# Altium footprint library TerminalBlock_CUI.PcbLib: 23 footprints (part 2 of 2)
Each footprint in its own frame and in the unit in brackets; x right, y up, seen from the top. Pads: shape width x height; smd on the part's side, far side on the other; paste and mask are expansions set on the pad; w line width, h text height; cw(c..) or ccw(c..) is an arc to the next point about the centre after c.
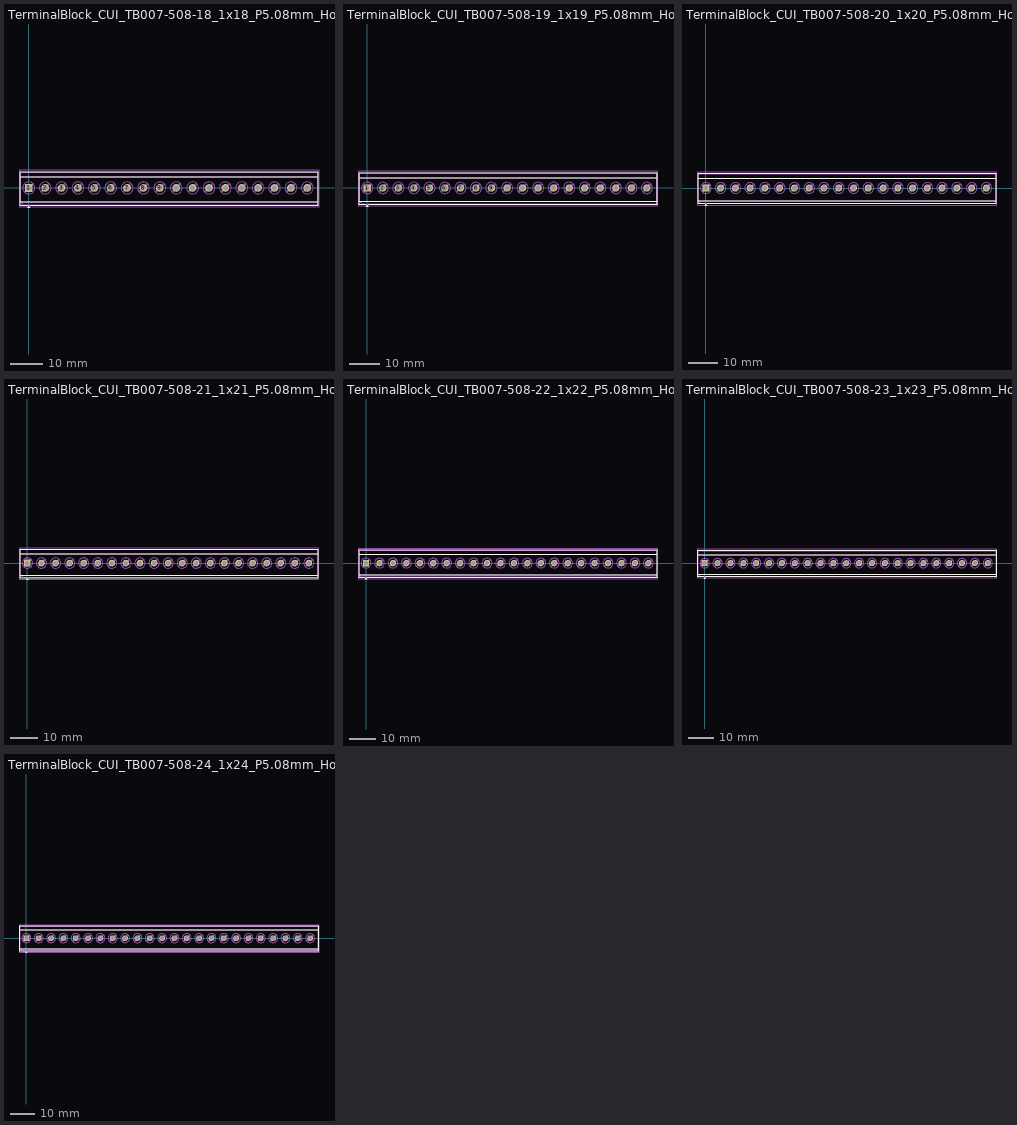
[diagram p1: the footprints below, top view; thin cyan lines are the x and y axes]

## TerminalBlock_CUI_TB007-508-18_1x18_P5.08mm_Horizontal [mm]
pads (18):
  rrect10% 2.4x2.4 hole 1.6: 1(0,0)
  round 2.4 hole 1.6: 2(5.08,0) 3(10.16,0) 4(15.24,0) 5(20.32,0) 6(25.4,0) 7(30.48,0) 8(35.56,0) 9(40.64,0) 10(45.72,0) 11(50.8,0) 12(55.88,0) 13(60.96,0) 14(66.04,0) 15(71.12,0) 16(76.2,0) 17(81.28,0) 18(86.36,0)
F.SilkS:
  region: 0.44,-6.08 -0.44,-6.08 0,-5.47
  lines w0.254: -2.66,-4.35 89.62,-4.35 ; -2.66,3.4 89.62,3.4 ; -0.3,-5.47 -2.66,-5.47 -2.66,5.02 89.62,5.02 89.62,-5.47 0.3,-5.47
F.Fab:
  circle w0.254: c0,0 r1.85
  circle w0.254: c5.08,0 r1.85
  circle w0.254: c10.16,0 r1.85
  circle w0.254: c15.24,0 r1.85
  circle w0.254: c20.32,0 r1.85
  circle w0.254: c25.4,0 r1.85
  circle w0.254: c30.48,0 r1.85
  circle w0.254: c35.56,0 r1.85
  circle w0.254: c40.64,0 r1.85
  circle w0.254: c45.72,0 r1.85
  circle w0.254: c50.8,0 r1.85
  circle w0.254: c55.88,0 r1.85
  circle w0.254: c60.96,0 r1.85
  circle w0.254: c66.04,0 r1.85
  circle w0.254: c71.12,0 r1.85
  circle w0.254: c76.2,0 r1.85
  circle w0.254: c81.28,0 r1.85
  circle w0.254: c86.36,0 r1.85
  lines w0.254: -2.54,3.4 89.5,3.4 ; -1.403,-1.177 1.177,1.403 ; -1.177,-1.403 1.403,1.177 ; 3.677,-1.177 6.257,1.403 ; 3.903,-1.403 6.483,1.177 ; 8.757,-1.177 11.337,1.403 ; 8.983,-1.403 11.563,1.177 ; 13.837,-1.177 16.417,1.403 ; 14.063,-1.403 16.643,1.177 ; 18.917,-1.177 21.497,1.403 ; 19.143,-1.403 21.723,1.177 ; 23.997,-1.177 26.577,1.403 ; 24.223,-1.403 26.803,1.177 ; 29.077,-1.177 31.657,1.403 ; 29.303,-1.403 31.883,1.177 ; 34.157,-1.177 36.737,1.403 ; 34.383,-1.403 36.963,1.177 ; 39.237,-1.177 41.817,1.403 ; 39.463,-1.403 42.043,1.177 ; 44.317,-1.177 46.897,1.403 ; 44.543,-1.403 47.123,1.177 ; 49.397,-1.177 51.977,1.403 ; 49.623,-1.403 52.203,1.177 ; 54.477,-1.177 57.057,1.403 ; 54.703,-1.403 57.283,1.177 ; 59.557,-1.177 62.137,1.403 ; 59.783,-1.403 62.363,1.177 ; 64.637,-1.177 67.217,1.403 ; 64.863,-1.403 67.443,1.177 ; 69.717,-1.177 72.297,1.403 ; 69.943,-1.403 72.523,1.177 ; 74.797,-1.177 77.377,1.403 ; 75.023,-1.403 77.603,1.177 ; 79.877,-1.177 82.457,1.403 ; 80.103,-1.403 82.683,1.177 ; 84.957,-1.177 87.537,1.403 ; 85.183,-1.403 87.763,1.177 ; 89.5,-4.35 -2.54,-4.35 ; -2.54,-4.35 -2.54,4.9 89.5,4.9 89.5,-5.35 -1.54,-5.35 -2.54,-4.35
  text "'.Designator'" at 39.433,-1.065 h1
F.CrtYd:
  lines w0.254: -3.04,-5.85 -3.04,5.4 90,5.4 90,-5.85 -3.04,-5.85

## TerminalBlock_CUI_TB007-508-19_1x19_P5.08mm_Horizontal [mm]
pads (19):
  rrect10% 2.4x2.4 hole 1.6: 1(0,0)
  round 2.4 hole 1.6: 2(5.08,0) 3(10.16,0) 4(15.24,0) 5(20.32,0) 6(25.4,0) 7(30.48,0) 8(35.56,0) 9(40.64,0) 10(45.72,0) 11(50.8,0) 12(55.88,0) 13(60.96,0) 14(66.04,0) 15(71.12,0) 16(76.2,0) 17(81.28,0) 18(86.36,0) 19(91.44,0)
F.SilkS:
  region: 0.44,-6.08 -0.44,-6.08 0,-5.47
  lines w0.254: -2.66,-4.35 94.7,-4.35 ; -2.66,3.4 94.7,3.4 ; -0.3,-5.47 -2.66,-5.47 -2.66,5.02 94.7,5.02 94.7,-5.47 0.3,-5.47
F.Fab:
  circle w0.254: c0,0 r1.85
  circle w0.254: c5.08,0 r1.85
  circle w0.254: c10.16,0 r1.85
  circle w0.254: c15.24,0 r1.85
  circle w0.254: c20.32,0 r1.85
  circle w0.254: c25.4,0 r1.85
  circle w0.254: c30.48,0 r1.85
  circle w0.254: c35.56,0 r1.85
  circle w0.254: c40.64,0 r1.85
  circle w0.254: c45.72,0 r1.85
  circle w0.254: c50.8,0 r1.85
  circle w0.254: c55.88,0 r1.85
  circle w0.254: c60.96,0 r1.85
  circle w0.254: c66.04,0 r1.85
  circle w0.254: c71.12,0 r1.85
  circle w0.254: c76.2,0 r1.85
  circle w0.254: c81.28,0 r1.85
  circle w0.254: c86.36,0 r1.85
  circle w0.254: c91.44,0 r1.85
  lines w0.254: -2.54,3.4 94.58,3.4 ; -1.403,-1.177 1.177,1.403 ; -1.177,-1.403 1.403,1.177 ; 3.677,-1.177 6.257,1.403 ; 3.903,-1.403 6.483,1.177 ; 8.757,-1.177 11.337,1.403 ; 8.983,-1.403 11.563,1.177 ; 13.837,-1.177 16.417,1.403 ; 14.063,-1.403 16.643,1.177 ; 18.917,-1.177 21.497,1.403 ; 19.143,-1.403 21.723,1.177 ; 23.997,-1.177 26.577,1.403 ; 24.223,-1.403 26.803,1.177 ; 29.077,-1.177 31.657,1.403 ; 29.303,-1.403 31.883,1.177 ; 34.157,-1.177 36.737,1.403 ; 34.383,-1.403 36.963,1.177 ; 39.237,-1.177 41.817,1.403 ; 39.463,-1.403 42.043,1.177 ; 44.317,-1.177 46.897,1.403 ; 44.543,-1.403 47.123,1.177 ; 49.397,-1.177 51.977,1.403 ; 49.623,-1.403 52.203,1.177 ; 54.477,-1.177 57.057,1.403 ; 54.703,-1.403 57.283,1.177 ; 59.557,-1.177 62.137,1.403 ; 59.783,-1.403 62.363,1.177 ; 64.637,-1.177 67.217,1.403 ; 64.863,-1.403 67.443,1.177 ; 69.717,-1.177 72.297,1.403 ; 69.943,-1.403 72.523,1.177 ; 74.797,-1.177 77.377,1.403 ; 75.023,-1.403 77.603,1.177 ; 79.877,-1.177 82.457,1.403 ; 80.103,-1.403 82.683,1.177 ; 84.957,-1.177 87.537,1.403 ; 85.183,-1.403 87.763,1.177 ; 90.037,-1.177 92.617,1.403 ; 90.263,-1.403 92.843,1.177 ; 94.58,-4.35 -2.54,-4.35 ; -2.54,-4.35 -2.54,4.9 94.58,4.9 94.58,-5.35 -1.54,-5.35 -2.54,-4.35
  text "'.Designator'" at 41.973,-1.065 h1
F.CrtYd:
  lines w0.254: -3.04,-5.85 -3.04,5.4 95.08,5.4 95.08,-5.85 -3.04,-5.85

## TerminalBlock_CUI_TB007-508-20_1x20_P5.08mm_Horizontal [mm]
pads (20):
  rrect10% 2.4x2.4 hole 1.6: 1(0,0)
  round 2.4 hole 1.6: 2(5.08,0) 3(10.16,0) 4(15.24,0) 5(20.32,0) 6(25.4,0) 7(30.48,0) 8(35.56,0) 9(40.64,0) 10(45.72,0) 11(50.8,0) 12(55.88,0) 13(60.96,0) 14(66.04,0) 15(71.12,0) 16(76.2,0) 17(81.28,0) 18(86.36,0) 19(91.44,0) 20(96.52,0)
F.SilkS:
  region: 0.44,-6.08 -0.44,-6.08 0,-5.47
  lines w0.254: -2.66,-4.35 99.78,-4.35 ; -2.66,3.4 99.78,3.4 ; -0.3,-5.47 -2.66,-5.47 -2.66,5.02 99.78,5.02 99.78,-5.47 0.3,-5.47
F.Fab:
  circle w0.254: c0,0 r1.85
  circle w0.254: c5.08,0 r1.85
  circle w0.254: c10.16,0 r1.85
  circle w0.254: c15.24,0 r1.85
  circle w0.254: c20.32,0 r1.85
  circle w0.254: c25.4,0 r1.85
  circle w0.254: c30.48,0 r1.85
  circle w0.254: c35.56,0 r1.85
  circle w0.254: c40.64,0 r1.85
  circle w0.254: c45.72,0 r1.85
  circle w0.254: c50.8,0 r1.85
  circle w0.254: c55.88,0 r1.85
  circle w0.254: c60.96,0 r1.85
  circle w0.254: c66.04,0 r1.85
  circle w0.254: c71.12,0 r1.85
  circle w0.254: c76.2,0 r1.85
  circle w0.254: c81.28,0 r1.85
  circle w0.254: c86.36,0 r1.85
  circle w0.254: c91.44,0 r1.85
  circle w0.254: c96.52,0 r1.85
  lines w0.254: -2.54,3.4 99.66,3.4 ; -1.403,-1.177 1.177,1.403 ; -1.177,-1.403 1.403,1.177 ; 3.677,-1.177 6.257,1.403 ; 3.903,-1.403 6.483,1.177 ; 8.757,-1.177 11.337,1.403 ; 8.983,-1.403 11.563,1.177 ; 13.837,-1.177 16.417,1.403 ; 14.063,-1.403 16.643,1.177 ; 18.917,-1.177 21.497,1.403 ; 19.143,-1.403 21.723,1.177 ; 23.997,-1.177 26.577,1.403 ; 24.223,-1.403 26.803,1.177 ; 29.077,-1.177 31.657,1.403 ; 29.303,-1.403 31.883,1.177 ; 34.157,-1.177 36.737,1.403 ; 34.383,-1.403 36.963,1.177 ; 39.237,-1.177 41.817,1.403 ; 39.463,-1.403 42.043,1.177 ; 44.317,-1.177 46.897,1.403 ; 44.543,-1.403 47.123,1.177 ; 49.397,-1.177 51.977,1.403 ; 49.623,-1.403 52.203,1.177 ; 54.477,-1.177 57.057,1.403 ; 54.703,-1.403 57.283,1.177 ; 59.557,-1.177 62.137,1.403 ; 59.783,-1.403 62.363,1.177 ; 64.637,-1.177 67.217,1.403 ; 64.863,-1.403 67.443,1.177 ; 69.717,-1.177 72.297,1.403 ; 69.943,-1.403 72.523,1.177 ; 74.797,-1.177 77.377,1.403 ; 75.023,-1.403 77.603,1.177 ; 79.877,-1.177 82.457,1.403 ; 80.103,-1.403 82.683,1.177 ; 84.957,-1.177 87.537,1.403 ; 85.183,-1.403 87.763,1.177 ; 90.037,-1.177 92.617,1.403 ; 90.263,-1.403 92.843,1.177 ; 95.117,-1.177 97.697,1.403 ; 95.343,-1.403 97.923,1.177 ; 99.66,-4.35 -2.54,-4.35 ; -2.54,-4.35 -2.54,4.9 99.66,4.9 99.66,-5.35 -1.54,-5.35 -2.54,-4.35
  text "'.Designator'" at 44.513,-1.065 h1
F.CrtYd:
  lines w0.254: -3.04,-5.85 -3.04,5.4 100.16,5.4 100.16,-5.85 -3.04,-5.85

## TerminalBlock_CUI_TB007-508-21_1x21_P5.08mm_Horizontal [mm]
pads (21):
  rrect10% 2.4x2.4 hole 1.6: 1(0,0)
  round 2.4 hole 1.6: 2(5.08,0) 3(10.16,0) 4(15.24,0) 5(20.32,0) 6(25.4,0) 7(30.48,0) 8(35.56,0) 9(40.64,0) 10(45.72,0) 11(50.8,0) 12(55.88,0) 13(60.96,0) 14(66.04,0) 15(71.12,0) 16(76.2,0) 17(81.28,0) 18(86.36,0) 19(91.44,0) 20(96.52,0) 21(101.6,0)
F.SilkS:
  region: 0.44,-6.08 -0.44,-6.08 0,-5.47
  lines w0.254: -2.66,-4.35 104.86,-4.35 ; -2.66,3.4 104.86,3.4 ; -0.3,-5.47 -2.66,-5.47 -2.66,5.02 104.86,5.02 104.86,-5.47 0.3,-5.47
F.Fab:
  circle w0.254: c0,0 r1.85
  circle w0.254: c5.08,0 r1.85
  circle w0.254: c10.16,0 r1.85
  circle w0.254: c15.24,0 r1.85
  circle w0.254: c20.32,0 r1.85
  circle w0.254: c25.4,0 r1.85
  circle w0.254: c30.48,0 r1.85
  circle w0.254: c35.56,0 r1.85
  circle w0.254: c40.64,0 r1.85
  circle w0.254: c45.72,0 r1.85
  circle w0.254: c50.8,0 r1.85
  circle w0.254: c55.88,0 r1.85
  circle w0.254: c60.96,0 r1.85
  circle w0.254: c66.04,0 r1.85
  circle w0.254: c71.12,0 r1.85
  circle w0.254: c76.2,0 r1.85
  circle w0.254: c81.28,0 r1.85
  circle w0.254: c86.36,0 r1.85
  circle w0.254: c91.44,0 r1.85
  circle w0.254: c96.52,0 r1.85
  circle w0.254: c101.6,0 r1.85
  lines w0.254: -2.54,3.4 104.74,3.4 ; -1.403,-1.177 1.177,1.403 ; -1.177,-1.403 1.403,1.177 ; 3.677,-1.177 6.257,1.403 ; 3.903,-1.403 6.483,1.177 ; 8.757,-1.177 11.337,1.403 ; 8.983,-1.403 11.563,1.177 ; 13.837,-1.177 16.417,1.403 ; 14.063,-1.403 16.643,1.177 ; 18.917,-1.177 21.497,1.403 ; 19.143,-1.403 21.723,1.177 ; 23.997,-1.177 26.577,1.403 ; 24.223,-1.403 26.803,1.177 ; 29.077,-1.177 31.657,1.403 ; 29.303,-1.403 31.883,1.177 ; 34.157,-1.177 36.737,1.403 ; 34.383,-1.403 36.963,1.177 ; 39.237,-1.177 41.817,1.403 ; 39.463,-1.403 42.043,1.177 ; 44.317,-1.177 46.897,1.403 ; 44.543,-1.403 47.123,1.177 ; 49.397,-1.177 51.977,1.403 ; 49.623,-1.403 52.203,1.177 ; 54.477,-1.177 57.057,1.403 ; 54.703,-1.403 57.283,1.177 ; 59.557,-1.177 62.137,1.403 ; 59.783,-1.403 62.363,1.177 ; 64.637,-1.177 67.217,1.403 ; 64.863,-1.403 67.443,1.177 ; 69.717,-1.177 72.297,1.403 ; 69.943,-1.403 72.523,1.177 ; 74.797,-1.177 77.377,1.403 ; 75.023,-1.403 77.603,1.177 ; 79.877,-1.177 82.457,1.403 ; 80.103,-1.403 82.683,1.177 ; 84.957,-1.177 87.537,1.403 ; 85.183,-1.403 87.763,1.177 ; 90.037,-1.177 92.617,1.403 ; 90.263,-1.403 92.843,1.177 ; 95.117,-1.177 97.697,1.403 ; 95.343,-1.403 97.923,1.177 ; 100.197,-1.177 102.777,1.403 ; 100.423,-1.403 103.003,1.177 ; 104.74,-4.35 -2.54,-4.35 ; -2.54,-4.35 -2.54,4.9 104.74,4.9 104.74,-5.35 -1.54,-5.35 -2.54,-4.35
  text "'.Designator'" at 47.053,-1.065 h1
F.CrtYd:
  lines w0.254: -3.04,-5.85 -3.04,5.4 105.24,5.4 105.24,-5.85 -3.04,-5.85

## TerminalBlock_CUI_TB007-508-22_1x22_P5.08mm_Horizontal [mm]
pads (22):
  rrect10% 2.4x2.4 hole 1.6: 1(0,0)
  round 2.4 hole 1.6: 2(5.08,0) 3(10.16,0) 4(15.24,0) 5(20.32,0) 6(25.4,0) 7(30.48,0) 8(35.56,0) 9(40.64,0) 10(45.72,0) 11(50.8,0) 12(55.88,0) 13(60.96,0) 14(66.04,0) 15(71.12,0) 16(76.2,0) 17(81.28,0) 18(86.36,0) 19(91.44,0) 20(96.52,0) 21(101.6,0) 22(106.68,0)
F.SilkS:
  region: 0.44,-6.08 -0.44,-6.08 0,-5.47
  lines w0.254: -2.66,-4.35 109.94,-4.35 ; -2.66,3.4 109.94,3.4 ; -0.3,-5.47 -2.66,-5.47 -2.66,5.02 109.94,5.02 109.94,-5.47 0.3,-5.47
F.Fab:
  circle w0.254: c0,0 r1.85
  circle w0.254: c5.08,0 r1.85
  circle w0.254: c10.16,0 r1.85
  circle w0.254: c15.24,0 r1.85
  circle w0.254: c20.32,0 r1.85
  circle w0.254: c25.4,0 r1.85
  circle w0.254: c30.48,0 r1.85
  circle w0.254: c35.56,0 r1.85
  circle w0.254: c40.64,0 r1.85
  circle w0.254: c45.72,0 r1.85
  circle w0.254: c50.8,0 r1.85
  circle w0.254: c55.88,0 r1.85
  circle w0.254: c60.96,0 r1.85
  circle w0.254: c66.04,0 r1.85
  circle w0.254: c71.12,0 r1.85
  circle w0.254: c76.2,0 r1.85
  circle w0.254: c81.28,0 r1.85
  circle w0.254: c86.36,0 r1.85
  circle w0.254: c91.44,0 r1.85
  circle w0.254: c96.52,0 r1.85
  circle w0.254: c101.6,0 r1.85
  circle w0.254: c106.68,0 r1.85
  lines w0.254: -2.54,3.4 109.82,3.4 ; -1.403,-1.177 1.177,1.403 ; -1.177,-1.403 1.403,1.177 ; 3.677,-1.177 6.257,1.403 ; 3.903,-1.403 6.483,1.177 ; 8.757,-1.177 11.337,1.403 ; 8.983,-1.403 11.563,1.177 ; 13.837,-1.177 16.417,1.403 ; 14.063,-1.403 16.643,1.177 ; 18.917,-1.177 21.497,1.403 ; 19.143,-1.403 21.723,1.177 ; 23.997,-1.177 26.577,1.403 ; 24.223,-1.403 26.803,1.177 ; 29.077,-1.177 31.657,1.403 ; 29.303,-1.403 31.883,1.177 ; 34.157,-1.177 36.737,1.403 ; 34.383,-1.403 36.963,1.177 ; 39.237,-1.177 41.817,1.403 ; 39.463,-1.403 42.043,1.177 ; 44.317,-1.177 46.897,1.403 ; 44.543,-1.403 47.123,1.177 ; 49.397,-1.177 51.977,1.403 ; 49.623,-1.403 52.203,1.177 ; 54.477,-1.177 57.057,1.403 ; 54.703,-1.403 57.283,1.177 ; 59.557,-1.177 62.137,1.403 ; 59.783,-1.403 62.363,1.177 ; 64.637,-1.177 67.217,1.403 ; 64.863,-1.403 67.443,1.177 ; 69.717,-1.177 72.297,1.403 ; 69.943,-1.403 72.523,1.177 ; 74.797,-1.177 77.377,1.403 ; 75.023,-1.403 77.603,1.177 ; 79.877,-1.177 82.457,1.403 ; 80.103,-1.403 82.683,1.177 ; 84.957,-1.177 87.537,1.403 ; 85.183,-1.403 87.763,1.177 ; 90.037,-1.177 92.617,1.403 ; 90.263,-1.403 92.843,1.177 ; 95.117,-1.177 97.697,1.403 ; 95.343,-1.403 97.923,1.177 ; 100.197,-1.177 102.777,1.403 ; 100.423,-1.403 103.003,1.177 ; 105.277,-1.177 107.857,1.403 ; 105.503,-1.403 108.083,1.177 ; 109.82,-4.35 -2.54,-4.35 ; -2.54,-4.35 -2.54,4.9 109.82,4.9 109.82,-5.35 -1.54,-5.35 -2.54,-4.35
  text "'.Designator'" at 49.593,-1.065 h1
F.CrtYd:
  lines w0.254: -3.04,-5.85 -3.04,5.4 110.32,5.4 110.32,-5.85 -3.04,-5.85

## TerminalBlock_CUI_TB007-508-23_1x23_P5.08mm_Horizontal [mm]
pads (23):
  rrect10% 2.4x2.4 hole 1.6: 1(0,0)
  round 2.4 hole 1.6: 2(5.08,0) 3(10.16,0) 4(15.24,0) 5(20.32,0) 6(25.4,0) 7(30.48,0) 8(35.56,0) 9(40.64,0) 10(45.72,0) 11(50.8,0) 12(55.88,0) 13(60.96,0) 14(66.04,0) 15(71.12,0) 16(76.2,0) 17(81.28,0) 18(86.36,0) 19(91.44,0) 20(96.52,0) 21(101.6,0) 22(106.68,0) 23(111.76,0)
F.SilkS:
  region: 0.44,-6.08 -0.44,-6.08 0,-5.47
  lines w0.254: -2.66,-4.35 115.02,-4.35 ; -2.66,3.4 115.02,3.4 ; -0.3,-5.47 -2.66,-5.47 -2.66,5.02 115.02,5.02 115.02,-5.47 0.3,-5.47
F.Fab:
  circle w0.254: c0,0 r1.85
  circle w0.254: c5.08,0 r1.85
  circle w0.254: c10.16,0 r1.85
  circle w0.254: c15.24,0 r1.85
  circle w0.254: c20.32,0 r1.85
  circle w0.254: c25.4,0 r1.85
  circle w0.254: c30.48,0 r1.85
  circle w0.254: c35.56,0 r1.85
  circle w0.254: c40.64,0 r1.85
  circle w0.254: c45.72,0 r1.85
  circle w0.254: c50.8,0 r1.85
  circle w0.254: c55.88,0 r1.85
  circle w0.254: c60.96,0 r1.85
  circle w0.254: c66.04,0 r1.85
  circle w0.254: c71.12,0 r1.85
  circle w0.254: c76.2,0 r1.85
  circle w0.254: c81.28,0 r1.85
  circle w0.254: c86.36,0 r1.85
  circle w0.254: c91.44,0 r1.85
  circle w0.254: c96.52,0 r1.85
  circle w0.254: c101.6,0 r1.85
  circle w0.254: c106.68,0 r1.85
  circle w0.254: c111.76,0 r1.85
  lines w0.254: -2.54,3.4 114.9,3.4 ; -1.403,-1.177 1.177,1.403 ; -1.177,-1.403 1.403,1.177 ; 3.677,-1.177 6.257,1.403 ; 3.903,-1.403 6.483,1.177 ; 8.757,-1.177 11.337,1.403 ; 8.983,-1.403 11.563,1.177 ; 13.837,-1.177 16.417,1.403 ; 14.063,-1.403 16.643,1.177 ; 18.917,-1.177 21.497,1.403 ; 19.143,-1.403 21.723,1.177 ; 23.997,-1.177 26.577,1.403 ; 24.223,-1.403 26.803,1.177 ; 29.077,-1.177 31.657,1.403 ; 29.303,-1.403 31.883,1.177 ; 34.157,-1.177 36.737,1.403 ; 34.383,-1.403 36.963,1.177 ; 39.237,-1.177 41.817,1.403 ; 39.463,-1.403 42.043,1.177 ; 44.317,-1.177 46.897,1.403 ; 44.543,-1.403 47.123,1.177 ; 49.397,-1.177 51.977,1.403 ; 49.623,-1.403 52.203,1.177 ; 54.477,-1.177 57.057,1.403 ; 54.703,-1.403 57.283,1.177 ; 59.557,-1.177 62.137,1.403 ; 59.783,-1.403 62.363,1.177 ; 64.637,-1.177 67.217,1.403 ; 64.863,-1.403 67.443,1.177 ; 69.717,-1.177 72.297,1.403 ; 69.943,-1.403 72.523,1.177 ; 74.797,-1.177 77.377,1.403 ; 75.023,-1.403 77.603,1.177 ; 79.877,-1.177 82.457,1.403 ; 80.103,-1.403 82.683,1.177 ; 84.957,-1.177 87.537,1.403 ; 85.183,-1.403 87.763,1.177 ; 90.037,-1.177 92.617,1.403 ; 90.263,-1.403 92.843,1.177 ; 95.117,-1.177 97.697,1.403 ; 95.343,-1.403 97.923,1.177 ; 100.197,-1.177 102.777,1.403 ; 100.423,-1.403 103.003,1.177 ; 105.277,-1.177 107.857,1.403 ; 105.503,-1.403 108.083,1.177 ; 110.357,-1.177 112.937,1.403 ; 110.583,-1.403 113.163,1.177 ; 114.9,-4.35 -2.54,-4.35 ; -2.54,-4.35 -2.54,4.9 114.9,4.9 114.9,-5.35 -1.54,-5.35 -2.54,-4.35
  text "'.Designator'" at 52.133,-1.065 h1
F.CrtYd:
  lines w0.254: -3.04,-5.85 -3.04,5.4 115.4,5.4 115.4,-5.85 -3.04,-5.85

## TerminalBlock_CUI_TB007-508-24_1x24_P5.08mm_Horizontal [mm]
pads (24):
  rrect10% 2.4x2.4 hole 1.6: 1(0,0)
  round 2.4 hole 1.6: 2(5.08,0) 3(10.16,0) 4(15.24,0) 5(20.32,0) 6(25.4,0) 7(30.48,0) 8(35.56,0) 9(40.64,0) 10(45.72,0) 11(50.8,0) 12(55.88,0) 13(60.96,0) 14(66.04,0) 15(71.12,0) 16(76.2,0) 17(81.28,0) 18(86.36,0) 19(91.44,0) 20(96.52,0) 21(101.6,0) 22(106.68,0) 23(111.76,0) 24(116.84,0)
F.SilkS:
  region: 0.44,-6.08 -0.44,-6.08 0,-5.47
  lines w0.254: -2.66,-4.35 120.1,-4.35 ; -2.66,3.4 120.1,3.4 ; -0.3,-5.47 -2.66,-5.47 -2.66,5.02 120.1,5.02 120.1,-5.47 0.3,-5.47
F.Fab:
  circle w0.254: c0,0 r1.85
  circle w0.254: c5.08,0 r1.85
  circle w0.254: c10.16,0 r1.85
  circle w0.254: c15.24,0 r1.85
  circle w0.254: c20.32,0 r1.85
  circle w0.254: c25.4,0 r1.85
  circle w0.254: c30.48,0 r1.85
  circle w0.254: c35.56,0 r1.85
  circle w0.254: c40.64,0 r1.85
  circle w0.254: c45.72,0 r1.85
  circle w0.254: c50.8,0 r1.85
  circle w0.254: c55.88,0 r1.85
  circle w0.254: c60.96,0 r1.85
  circle w0.254: c66.04,0 r1.85
  circle w0.254: c71.12,0 r1.85
  circle w0.254: c76.2,0 r1.85
  circle w0.254: c81.28,0 r1.85
  circle w0.254: c86.36,0 r1.85
  circle w0.254: c91.44,0 r1.85
  circle w0.254: c96.52,0 r1.85
  circle w0.254: c101.6,0 r1.85
  circle w0.254: c106.68,0 r1.85
  circle w0.254: c111.76,0 r1.85
  circle w0.254: c116.84,0 r1.85
  lines w0.254: -2.54,3.4 119.98,3.4 ; -1.403,-1.177 1.177,1.403 ; -1.177,-1.403 1.403,1.177 ; 3.677,-1.177 6.257,1.403 ; 3.903,-1.403 6.483,1.177 ; 8.757,-1.177 11.337,1.403 ; 8.983,-1.403 11.563,1.177 ; 13.837,-1.177 16.417,1.403 ; 14.063,-1.403 16.643,1.177 ; 18.917,-1.177 21.497,1.403 ; 19.143,-1.403 21.723,1.177 ; 23.997,-1.177 26.577,1.403 ; 24.223,-1.403 26.803,1.177 ; 29.077,-1.177 31.657,1.403 ; 29.303,-1.403 31.883,1.177 ; 34.157,-1.177 36.737,1.403 ; 34.383,-1.403 36.963,1.177 ; 39.237,-1.177 41.817,1.403 ; 39.463,-1.403 42.043,1.177 ; 44.317,-1.177 46.897,1.403 ; 44.543,-1.403 47.123,1.177 ; 49.397,-1.177 51.977,1.403 ; 49.623,-1.403 52.203,1.177 ; 54.477,-1.177 57.057,1.403 ; 54.703,-1.403 57.283,1.177 ; 59.557,-1.177 62.137,1.403 ; 59.783,-1.403 62.363,1.177 ; 64.637,-1.177 67.217,1.403 ; 64.863,-1.403 67.443,1.177 ; 69.717,-1.177 72.297,1.403 ; 69.943,-1.403 72.523,1.177 ; 74.797,-1.177 77.377,1.403 ; 75.023,-1.403 77.603,1.177 ; 79.877,-1.177 82.457,1.403 ; 80.103,-1.403 82.683,1.177 ; 84.957,-1.177 87.537,1.403 ; 85.183,-1.403 87.763,1.177 ; 90.037,-1.177 92.617,1.403 ; 90.263,-1.403 92.843,1.177 ; 95.117,-1.177 97.697,1.403 ; 95.343,-1.403 97.923,1.177 ; 100.197,-1.177 102.777,1.403 ; 100.423,-1.403 103.003,1.177 ; 105.277,-1.177 107.857,1.403 ; 105.503,-1.403 108.083,1.177 ; 110.357,-1.177 112.937,1.403 ; 110.583,-1.403 113.163,1.177 ; 115.437,-1.177 118.017,1.403 ; 115.663,-1.403 118.243,1.177 ; 119.98,-4.35 -2.54,-4.35 ; -2.54,-4.35 -2.54,4.9 119.98,4.9 119.98,-5.35 -1.54,-5.35 -2.54,-4.35
  text "'.Designator'" at 54.673,-1.065 h1
F.CrtYd:
  lines w0.254: -3.04,-5.85 -3.04,5.4 120.48,5.4 120.48,-5.85 -3.04,-5.85